# EAGLE library part RTL8201C (library ARM926SBC)
Fast Ethernet PHY
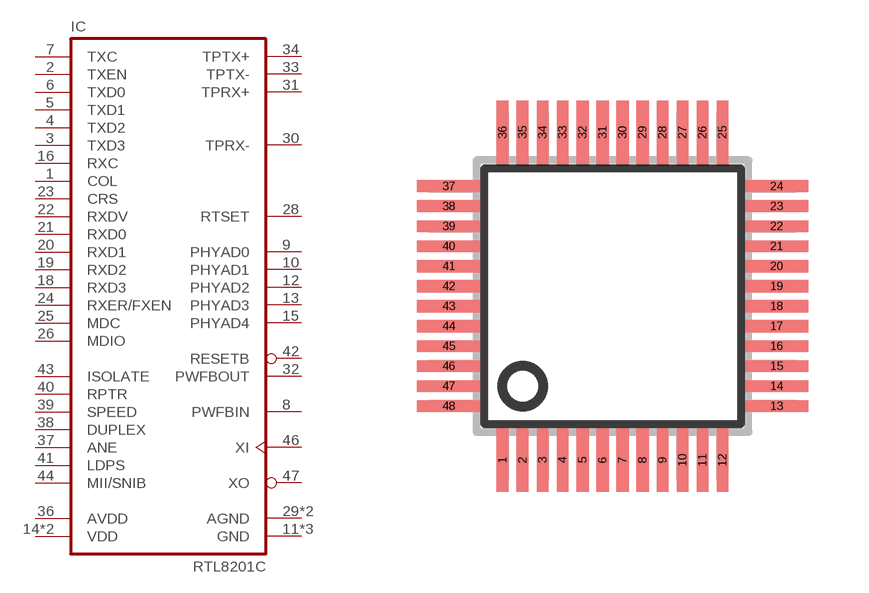
[diagram p5: symbol with the pads of SQFP-S-7X7-48; footprint SQFP-S-7X7-48]

Designator prefix IC

## RTL8201C, RTL8201CL  [SQFP-S-7X7-48]
1  COL  out
2  TXEN  in
3  TXD3  in
4  TXD2  in
5  TXD1  in
6  TXD0  in
7  TXC  out
8  PWFBIN  pas
9  PHYAD0
10  PHYAD1
11  GND  pwr
12  PHYAD2
13  PHYAD3
14  VDD  pwr
15  PHYAD4
16  RXC  out
17  GND  pwr
18  RXD3  out
19  RXD2  out
20  RXD1  out
21  RXD0  out
22  RXDV  out
23  CRS  out
24  RXER/FXEN
25  MDC  in
26  MDIO
28  RTSET  pas
29  AGND  pwr
30  TPRX-  in
31  TPRX+  in
32  PWFBOUT  pas
33  TPTX-  out
34  TPTX+  out
35  AGND  pwr
36  AVDD  pwr
37  ANE  in
38  DUPLEX  in
39  SPEED  in
40  RPTR  in
41  LDPS  in
42  RESETB  in
43  ISOLATE  in
44  MII/SNIB  in
45  GND  pwr
46  XI  in
47  XO  out
48  VDD  pwr

## Footprint SQFP-S-7X7-48 (pad centres in mm)
QFP48 shrink quad flat pack, square
smd 0.3 x 1.6: 1 -2.75,-4.1; 2 -2.25,-4.1; 3 -1.75,-4.1; 4 -1.25,-4.1; 5 -0.75,-4.1; 6 -0.25,-4.1; 7 0.25,-4.1; 8 0.75,-4.1; 9 1.25,-4.1; 10 1.75,-4.1; 11 2.25,-4.1; 12 2.75,-4.1; 25 2.75,4.1; 26 2.25,4.1; 27 1.75,4.1; 28 1.25,4.1; 29 0.75,4.1; 30 0.25,4.1; 31 -0.25,4.1; 32 -0.75,4.1; 33 -1.25,4.1; 34 -1.75,4.1; 35 -2.25,4.1; 36 -2.75,4.1
smd 1.6 x 0.3: 13 4.1,-2.75; 14 4.1,-2.25; 15 4.1,-1.75; 16 4.1,-1.25; 17 4.1,-0.75; 18 4.1,-0.25; 19 4.1,0.25; 20 4.1,0.75; 21 4.1,1.25; 22 4.1,1.75; 23 4.1,2.25; 24 4.1,2.75; 37 -4.1,2.75; 38 -4.1,2.25; 39 -4.1,1.75; 40 -4.1,1.25; 41 -4.1,0.75; 42 -4.1,0.25; 43 -4.1,-0.25; 44 -4.1,-0.75; 45 -4.1,-1.25; 46 -4.1,-1.75; 47 -4.1,-2.25; 48 -4.1,-2.75